# Altium schematic symbol library SCH_Connector.SchLib: 53 symbols
Pins are listed as number, name and electrical type; pins without a type are passive.

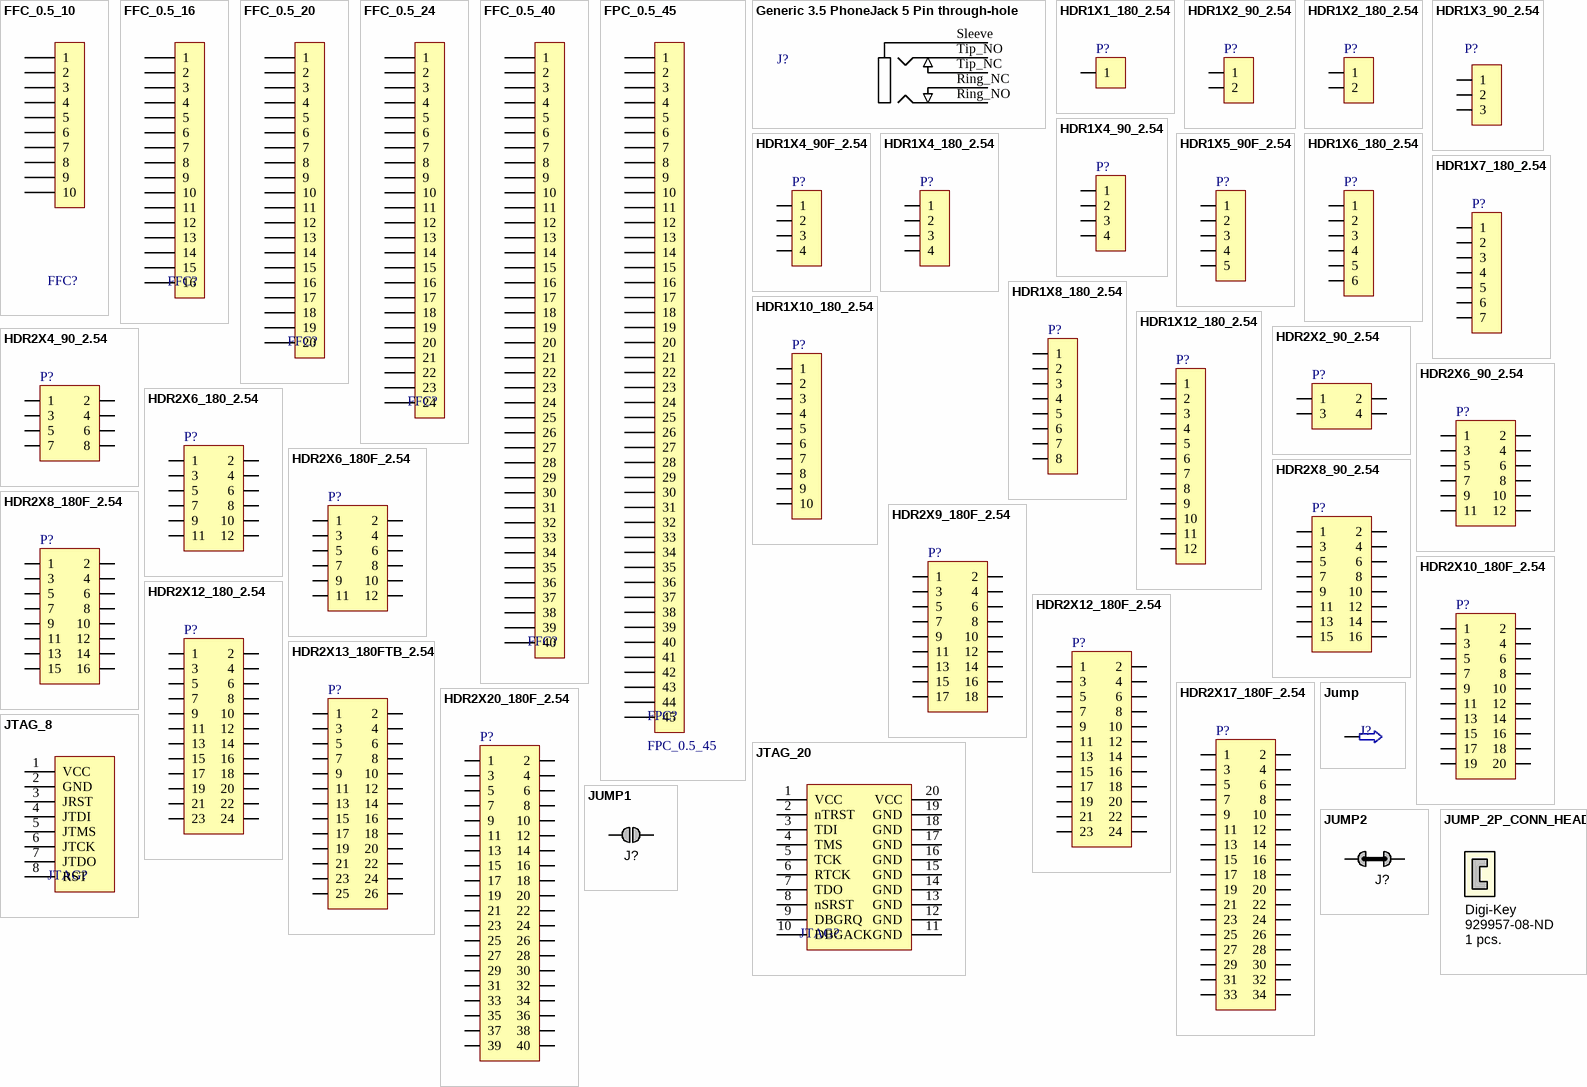
[diagram p0: symbols FFC_0.5_10 to JUMP_2P_CONN_HEADER]

## FFC_0.5_10
designator FFC?  (value not drawn)
FFC
footprint FFC_0.5_10 (Connector; FH12 Series; 10 Position; 0.5mm Spaced Bottom Contact)
pins: 1, 2, 3, 4, 5, 6, 7, 8, 9, 10

## FFC_0.5_16
designator FFC?  (value not drawn)
FFC
footprint FFC_0.5_16 (Connector; FH12 Series; 16 Position; 0.5mm Spaced Bottom Contact)
pins: 1, 2, 3, 4, 5, 6, 7, 8, 9, 10, 11, 12, 13, 14, 15, 16

## FFC_0.5_20
designator FFC?  (value not drawn)
FFC
footprint FFC_0.5_20 (Connector; FH12 Series; 20 Position; 0.5mm Spaced Bottom Contact)
pins: 1, 2, 3, 4, 5, 6, 7, 8, 9, 10, 11, 12, 13, 14, 15, 16, 17, 18, 19, 20

## FFC_0.5_24
designator FFC?  (value not drawn)
FFC
footprint FFC_0.5_24 (Connector; FH12 Series; 24 Position; 0.5mm Spaced Bottom Contact)
pins: 1, 2, 3, 4, 5, 6, 7, 8, 9, 10, 11, 12, 13, 14, 15, 16, 17, 18, 19, 20, 21, 22, 23, 24

## FFC_0.5_40
designator FFC?  (value not drawn)
FFC
footprint FFC_0.5_40 (Connector; FH12 Series; 40 Position; 0.5mm Spaced Top Contact)
pins: 1, 2, 3, 4, 5, 6, 7, 8, 9, 10, 11, 12, 13, 14, 15, 16, 17, 18, 19, 20, 21, 22, 23, 24, 25, 26, 27, 28, 29, 30, 31, 32, 33, 34, 35, 36, 37, 38, 39, 40

## FPC_0.5_45
designator FPC?
FPC
footprint FPC_0.5_45
pins: 1, 2, 3, 4, 5, 6, 7, 8, 9, 10, 11, 12, 13, 14, 15, 16, 17, 18, 19, 20, 21, 22, 23, 24, 25, 26, 27, 28, 29, 30, 31, 32, 33, 34, 35, 36, 37, 38, 39, 40, 41, 42, 43, 44, 45

## Generic 3.5 PhoneJack 5 Pin through-hole
designator J?  (value not drawn)
footprint 3.5 PhoneJack 5 Pin (Generic 3.5 PhoneJack 5 Pin  through-hole)
pins: Ring_NC, Ring_NO, Sleeve, Tip_NC, Tip_NO

## HDR1X1_180_2.54
designator P?  (value not drawn)
Header
footprint HDR1X1_180_2.54 (Connector; Header; 2 Position)
pins: 1

## HDR1X2_90_2.54
designator P?  (value not drawn)
Header
footprint HDR1X2_90_2.54 (Connector; Header; 2 Position)
pins: 1, 2

## HDR1X2_180_2.54
designator P?  (value not drawn)
Header
footprint HDR1X2_180_2.54 (Connector; Header; 2 Position)
pins: 1, 2

## HDR1X3_90_2.54
designator P?  (value not drawn)
Header
footprint HDR1X3_90_2.54 (Connector; Header; 3 Position)
pins: 1, 2, 3

## HDR1X4_90_2.54
designator P?  (value not drawn)
Header
footprint HDR1X4_90_2.54 (Connector; Header; 4 Position)
pins: 1, 2, 3, 4

## HDR1X4_90F_2.54
designator P?  (value not drawn)
Header
footprint HDR1X4_90F_2.54 (Connector; Header; 2 Position)
pins: 1, 2, 3, 4

## HDR1X4_180_2.54
designator P?  (value not drawn)
Header
footprint HDR1X4_180_2.54 (Connector; Header; 4 Position)
pins: 1, 2, 3, 4

## HDR1X5_90F_2.54
designator P?  (value not drawn)
Header
footprint HDR1X5_90F_2.54
pins: 1, 2, 3, 4, 5

## HDR1X6_180_2.54
designator P?  (value not drawn)
Header
footprint HDR1X6_180_2.54 (Connector; Header; 6 Position)
pins: 1, 2, 3, 4, 5, 6

## HDR1X7_180_2.54
designator P?  (value not drawn)
Header
footprint HDR1X7_180_2.54 (Connector; Header; 6 Position)
pins: 1, 2, 3, 4, 5, 6, 7

## HDR1X8_180_2.54
designator P?  (value not drawn)
Header
footprint HDR1X8_180_2.54 (Connector; Header; 8 Position)
pins: 1, 2, 3, 4, 5, 6, 7, 8

## HDR1X10_180_2.54
designator P?  (value not drawn)
Header
footprint HDR1X10_180_2.54 (Connector; Header; 8 Position)
pins: 1, 2, 3, 4, 5, 6, 7, 8, 9, 10

## HDR1X12_180_2.54
designator P?  (value not drawn)
Header
footprint HDR1X12_180_2.54 (Connector; Header; 8 Position)
pins: 1, 2, 3, 4, 5, 6, 7, 8, 9, 10, 11, 12

## HDR2X2_90_2.54
designator P?  (value not drawn)
Header
footprint HDR2X2_90_2.54 (Connector; Header; 2x2 Position)
pins: 1, 2, 3, 4

## HDR2X4_90_2.54
designator P?  (value not drawn)
Header
footprint HDR2X4_90_2.54 (Connector; Header; 2x2 Position)
pins: 1, 2, 3, 4, 5, 6, 7, 8

## HDR2X6_90_2.54
designator P?  (value not drawn)
Header
footprint HDR2X6_90_2.54 (Connector; Header; 2x2 Position)
pins: 1, 2, 3, 4, 5, 6, 7, 8, 9, 10, 11, 12

## HDR2X6_180_2.54
designator P?  (value not drawn)
Header
footprint HDR2X6_180_2.54 (Connector; Header; 8x2 Position)
pins: 1, 2, 3, 4, 5, 6, 7, 8, 9, 10, 11, 12

## HDR2X6_180F_2.54
designator P?  (value not drawn)
Header
footprint HDR2X6_180F_2.54 (Connector; Header; 8x2 Position)
pins: 1, 2, 3, 4, 5, 6, 7, 8, 9, 10, 11, 12

## HDR2X8_90_2.54
designator P?  (value not drawn)
Header
footprint HDR2X8_90_2.54 (Connector; Header; 2x2 Position)
pins: 1, 2, 3, 4, 5, 6, 7, 8, 9, 10, 11, 12, 13, 14, 15, 16

## HDR2X8_180F_2.54
designator P?  (value not drawn)
Header
footprint HDR2X8_180F_2.54 (Connector; Header; 8x2 Position)
pins: 1, 2, 3, 4, 5, 6, 7, 8, 9, 10, 11, 12, 13, 14, 15, 16

## HDR2X9_180F_2.54
designator P?  (value not drawn)
Header
footprint HDR2X9_180F_2.54 (Connector; Header; 2x2 Position)
pins: 1, 2, 3, 4, 5, 6, 7, 8, 9, 10, 11, 12, 13, 14, 15, 16, 17, 18

## HDR2X10_180F_2.54
designator P?  (value not drawn)
Header
footprint HDR2X10_180F_2.54 (Connector; Header; 2x2 Position)
pins: 1, 2, 3, 4, 5, 6, 7, 8, 9, 10, 11, 12, 13, 14, 15, 16, 17, 18, 19, 20

## HDR2X12_180_2.54
designator P?  (value not drawn)
Header
footprint HDR2X12_180_2.54 (Footprint not found)
pins: 1, 2, 3, 4, 5, 6, 7, 8, 9, 10, 11, 12, 13, 14, 15, 16, 17, 18, 19, 20, 21, 22, 23, 24

## HDR2X12_180F_2.54
designator P?  (value not drawn)
Header
footprint HDR2X12_180F_2.54 (Footprint not found)
pins: 1, 2, 3, 4, 5, 6, 7, 8, 9, 10, 11, 12, 13, 14, 15, 16, 17, 18, 19, 20, 21, 22, 23, 24

## HDR2X13_180FTB_2.54
designator P?  (value not drawn)
Header
footprint HDR2X13_180FTB_2.54 (Connector; Header; 2x2 Position)
pins: 1, 2, 3, 4, 5, 6, 7, 8, 9, 10, 11, 12, 13, 14, 15, 16, 17, 18, 19, 20, 21, 22, 23, 24, 25, 26

## HDR2X17_180F_2.54
designator P?  (value not drawn)
Header
footprint HDR2X17_180F_2.54 (Connector; Header; 8x2 Position)
pins: 1, 2, 3, 4, 5, 6, 7, 8, 9, 10, 11, 12, 13, 14, 15, 16, 17, 18, 19, 20, 21, 22, 23, 24, 25, 26, 27, 28, 29, 30, 31, 32, 33, 34

## HDR2X20_180F_2.54
designator P?  (value not drawn)
Header
footprint HDR2X20_180F_2.54 (Connector; Header; 8x2 Position)
pins: 1, 2, 3, 4, 5, 6, 7, 8, 9, 10, 11, 12, 13, 14, 15, 16, 17, 18, 19, 20, 21, 22, 23, 24, 25, 26, 27, 28, 29, 30, 31, 32, 33, 34, 35, 36, 37, 38, 39, 40

## JTAG_8
designator JTAG?  (value not drawn)
JTAG
footprint HDR1X8 (Connector; Header; 8 Position)
pins: 1 VCC, 2 GND, 3 JRST, 4 JTDI, 5 JTMS, 6 JTCK, 7 JTDO, 8 RST

## JTAG_20
designator JTAG?  (value not drawn)
JTAG
footprint HDR2X10 (Connector; Header; 8x2 Position)
pins: 1 VCC, 2 nTRST, 3 TDI, 4 TMS, 5 TCK, 6 RTCK, 7 TDO, 8 nSRST, 9 DBGRQ, 10 DBGACK, 11 GND, 12 GND, 13 GND, 14 GND, 15 GND, 16 GND, 17 GND, 18 GND, 19 GND, 20 VCC

## Jump
designator J?  (value not drawn)
Jumper; Published: 24-Mar-1999; LatestRevisionDate: 17-Jul-2002; LatestRevisionNote: Re-released for DXP Platform.; PackageReference: RAD-0.2; Publisher: Altium Limited; PackageDescription: Radial Cap, Thru-Hole; 2 Leads; 0.2 in Pin Spacing
footprint Jump
pins: 1  ¡÷

## JUMP1
designator J?, comment Jumper  (value not drawn)  (no BOM)
SMD jumper
footprint JUMP1 (SMT Battery jumper pads)
pins: 1, 2

## JUMP2
designator J?, comment Jumper  (value not drawn)  (net tie, no BOM)
SMD jumper
footprint JUMP2 (SMT Battery jumper pads)
pins: 1, 2

## JUMP_2P_CONN_HEADER
designator J?, comment 1 pcs.  Supplier 1: Digi-Key  Supplier Part Number 1: 929957-08-ND  (mechanical)
Shorting Jumper, 2-position, 2.54mm pitch; Manufacturer 1: 3M; Manufacturer Part Number 1: 929957-08; Pitch: 0.100" (2.54mm); Value: 2 position; Category: Connectors Interconnects
pins: 1 hidden, 2 hidden

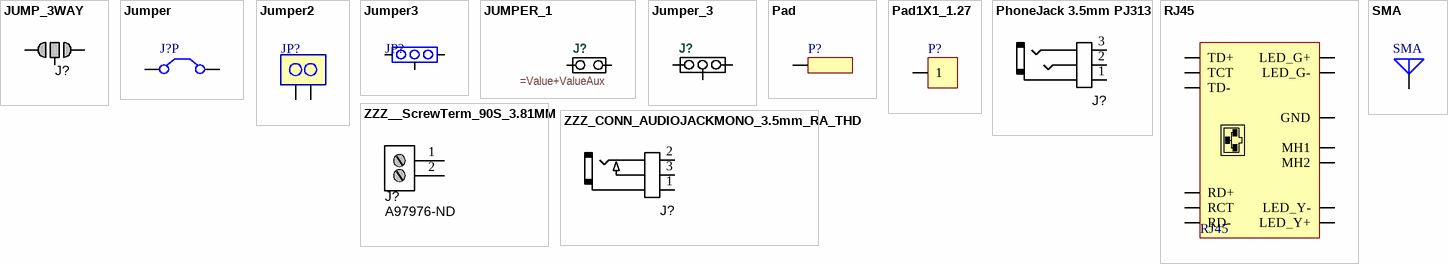
[diagram p1: symbols JUMP_3WAY to ZZZ_CONN_AUDIOJACKMONO_3.5mm_RA_THD]

## JUMP_3WAY
designator J?, comment Jumper  (value not drawn)  (no BOM)
SMD jumper
footprint Jump_3Way (SMT Battery jumper pads)
pins: 1, 2, 3

## Jumper
designator J?P  (value not drawn)
Published: 24-Mar-1999; LatestRevisionDate: 17-Jul-2002; LatestRevisionNote: Re-released for DXP Platform.; PackageReference: RAD-0.2; Publisher: Altium Limited; PackageDescription: Radial Cap, Thru-Hole; 2 Leads; 0.2 in Pin Spacing
footprint HDR1X2 (Connector; Header; 2 Position)
pins: 1 C1, 2 C2

## Jumper2
designator JP?  (value not drawn)
Jumper; Published: 24-Mar-1999; LatestRevisionDate: 17-Jul-2002; LatestRevisionNote: Re-released for DXP Platform.; PackageReference: RAD-0.2; Publisher: Altium Limited; PackageDescription: Radial Cap, Thru-Hole; 2 Leads; 0.2 in Pin Spacing
footprint HDR1X2 (Connector; Header; 2 Position)
pins: 1 C1, 2 C2

## Jumper3
designator JP?  (value not drawn)
Jumper
footprint HDR1X3_180_2.54 (Connector; Header; 4 Position)
pins: 1, 2, 3

## JUMPER_1
designator J?
=Description
pins: 1, 2

## Jumper_3
designator J?  (value not drawn)
Jumper
footprint HDR1X3_180_2.54 (Connector; Header; 4 Position)
pins: 1, 2, 3

## Pad
designator P?  (value not drawn)
Header
footprint Pad
pins: 1

## Pad1X1_1.27
designator P?  (value not drawn)
Header
footprint Pad1X1_1.27 (Connector; Header; 2 Position)
pins: 1

## PhoneJack 3.5mm PJ313
designator J?, comment Stereo PhoneJack  (value not drawn)
PJ313 PhoneJack
footprint PHONEJACK_3.5mm_PJ313 (PJ313 3.5mm PhoneJack)
pins: 1 Sleeve, 2 Ring, 3 Tip

## RJ45
designator RJ45  (value not drawn)
ETH
footprint RJ-45_LED
pins: 1 TD+, 2 TD-, 3 RD+, 4 TCT, 5 RCT, 6 RD-, 8 GND, 9 LED_G+, 10 LED_G-, 11 LED_Y-, 12 LED_Y+, 13 MH1, 14 MH2

## SMA
designator SMA  (value not drawn)
Antenna
footprint SMA_4
pins: 1 A

## ZZZ__ScrewTerm_90S_3.81MM
designator J?, comment Supplier Part Number 1: A97976-ND  (hidden comment: Stackable ScrewTerm)
Terminal Block Screw Type THT 2-Position 3.81mm pitch; Manufacturer 1: Tyco Electronics; Manufacturer Part Number 1: 1776113-2; Value: 2 position; Pitch: 0.150" (3.81mm); Positions Per Level: 2; Package / Case: Side Entry; 3.81mm pitch; Category: Connectors Interconnects; Color: Black; Supplier 1: Digi-Key
footprint 2P_PCB_ScrewTerm_90S_3.81MM (TERM BLOCK 2POS SIDE ENT STACKABLE 3.81MM)
pins: 1, 2

## ZZZ_CONN_AUDIOJACKMONO_3.5mm_RA_THD
designator J?, comment Mono phone jack  (value not drawn)
3.5mm Audio jack - Mono; Manufacturer 1: CUI Inc; Manufacturer Part Number 1: MJ-3502; Ratings: 1A; 12VDC; Material: Plastic, brass, silver; Package / Case: right-angle THD; Supplier 1: Digi-Key; Supplier Part Number 1: CP-3502MJ-ND
footprint CONN_AudioJackMono (CUI MJ-3502 3.5mm audio jack - mono)
pins: 1 Base, 2 TIP, 3 Middle